# EAGLE library part XC6SLX9-3TQG144C (library Schuyler)
Xilinx Spartan 6 LX9 FPGA in the TQG144 package.
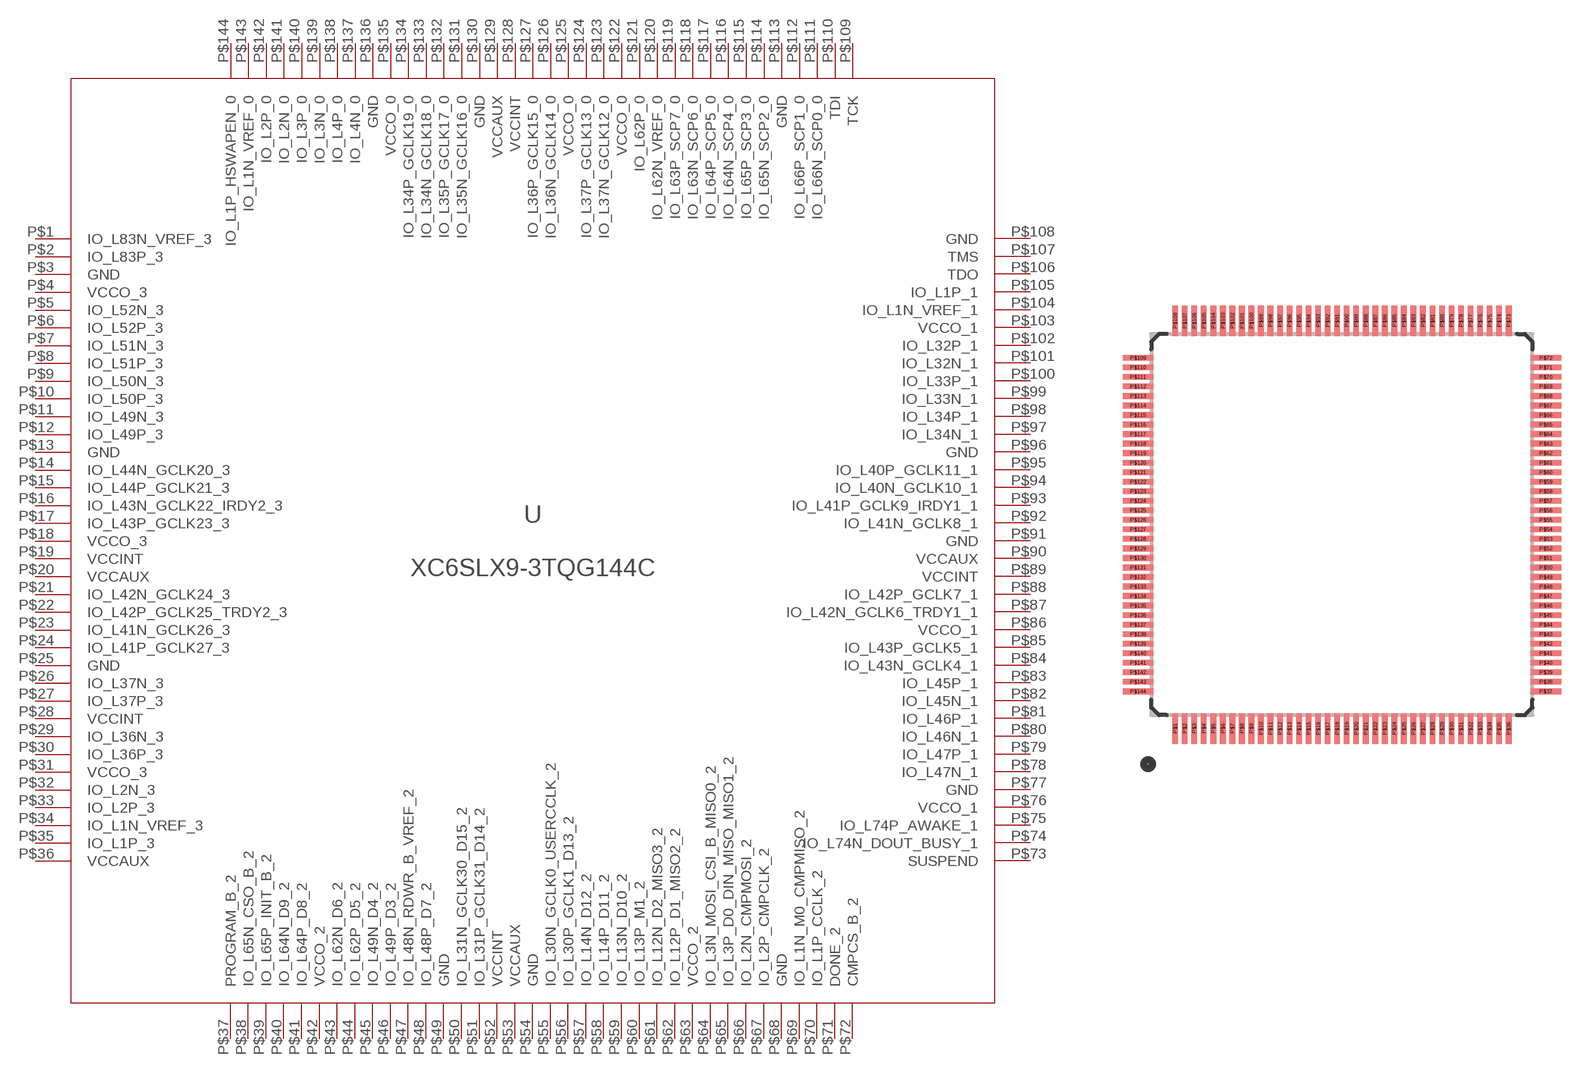
[diagram p13: symbol with the pads of TQG144; footprint TQG144]

Designator prefix -

## XC6SLX9-3TQG144C (MANPARTNUMBER: XC6SLX9-3TQG144C; MANUFACTURER: Xilinx Inc; PARTNUMBER: 122-1747-ND; SUPPLIER: DIGIKEY; VERIFIED: FALSE)  [TQG144]
P$1  IO_L83N_VREF_3
P$2  IO_L83P_3
P$3  GND  pwr
P$4  VCCO_3  pwr
P$5  IO_L52N_3
P$6  IO_L52P_3
P$7  IO_L51N_3
P$8  IO_L51P_3
P$9  IO_L50N_3
P$10  IO_L50P_3
P$11  IO_L49N_3
P$12  IO_L49P_3
P$13  GND  pwr
P$14  IO_L44N_GCLK20_3
P$15  IO_L44P_GCLK21_3
P$16  IO_L43N_GCLK22_IRDY2_3
P$17  IO_L43P_GCLK23_3
P$18  VCCO_3  pwr
P$19  VCCINT  pwr
P$20  VCCAUX  pwr
P$21  IO_L42N_GCLK24_3
P$22  IO_L42P_GCLK25_TRDY2_3
P$23  IO_L41N_GCLK26_3
P$24  IO_L41P_GCLK27_3
P$25  GND  pwr
P$26  IO_L37N_3
P$27  IO_L37P_3
P$28  VCCINT  pwr
P$29  IO_L36N_3
P$30  IO_L36P_3
P$31  VCCO_3  pwr
P$32  IO_L2N_3
P$33  IO_L2P_3
P$34  IO_L1N_VREF_3
P$35  IO_L1P_3
P$36  VCCAUX  pwr
P$37  PROGRAM_B_2
P$38  IO_L65N_CSO_B_2
P$39  IO_L65P_INIT_B_2
P$40  IO_L64N_D9_2
P$41  IO_L64P_D8_2
P$42  VCCO_2  pwr
P$43  IO_L62N_D6_2
P$44  IO_L62P_D5_2
P$45  IO_L49N_D4_2
P$46  IO_L49P_D3_2
P$47  IO_L48N_RDWR_B_VREF_2
P$48  IO_L48P_D7_2
P$49  GND  pwr
P$50  IO_L31N_GCLK30_D15_2
P$51  IO_L31P_GCLK31_D14_2
P$52  VCCINT  pwr
P$53  VCCAUX  pwr
P$54  GND  pwr
P$55  IO_L30N_GCLK0_USERCCLK_2
P$56  IO_L30P_GCLK1_D13_2
P$57  IO_L14N_D12_2
P$58  IO_L14P_D11_2
P$59  IO_L13N_D10_2
P$60  IO_L13P_M1_2
P$61  IO_L12N_D2_MISO3_2
P$62  IO_L12P_D1_MISO2_2
P$63  VCCO_2  pwr
P$64  IO_L3N_MOSI_CSI_B_MISO0_2
P$65  IO_L3P_D0_DIN_MISO_MISO1_2
P$66  IO_L2N_CMPMOSI_2
P$67  IO_L2P_CMPCLK_2
P$68  GND  pwr
P$69  IO_L1N_M0_CMPMISO_2
P$70  IO_L1P_CCLK_2
P$71  DONE_2
P$72  CMPCS_B_2
P$73  SUSPEND
P$74  IO_L74N_DOUT_BUSY_1
P$75  IO_L74P_AWAKE_1
P$76  VCCO_1  pwr
P$77  GND  pwr
P$78  IO_L47N_1
P$79  IO_L47P_1
P$80  IO_L46N_1
P$81  IO_L46P_1
P$82  IO_L45N_1
P$83  IO_L45P_1
P$84  IO_L43N_GCLK4_1
P$85  IO_L43P_GCLK5_1
P$86  VCCO_1  pwr
P$87  IO_L42N_GCLK6_TRDY1_1
P$88  IO_L42P_GCLK7_1
P$89  VCCINT  pwr
P$90  VCCAUX  pwr
P$91  GND  pwr
P$92  IO_L41N_GCLK8_1
P$93  IO_L41P_GCLK9_IRDY1_1
P$94  IO_L40N_GCLK10_1
P$95  IO_L40P_GCLK11_1
P$96  GND  pwr
P$97  IO_L34N_1
P$98  IO_L34P_1
P$99  IO_L33N_1
P$100  IO_L33P_1
P$101  IO_L32N_1
P$102  IO_L32P_1
P$103  VCCO_1  pwr
P$104  IO_L1N_VREF_1
P$105  IO_L1P_1
P$106  TDO
P$107  TMS
P$108  GND  pwr
P$109  TCK
P$110  TDI
P$111  IO_L66N_SCP0_0
P$112  IO_L66P_SCP1_0
P$113  GND  pwr
P$114  IO_L65N_SCP2_0
P$115  IO_L65P_SCP3_0
P$116  IO_L64N_SCP4_0
P$117  IO_L64P_SCP5_0
P$118  IO_L63N_SCP6_0
P$119  IO_L63P_SCP7_0
P$120  IO_L62N_VREF_0
P$121  IO_L62P_0
P$122  VCCO_0  pwr
P$123  IO_L37N_GCLK12_0
P$124  IO_L37P_GCLK13_0
P$125  VCCO_0  pwr
P$126  IO_L36N_GCLK14_0
P$127  IO_L36P_GCLK15_0
P$128  VCCINT  pwr
P$129  VCCAUX  pwr
P$130  GND  pwr
P$131  IO_L35N_GCLK16_0
P$132  IO_L35P_GCLK17_0
P$133  IO_L34N_GCLK18_0
P$134  IO_L34P_GCLK19_0
P$135  VCCO_0  pwr
P$136  GND  pwr
P$137  IO_L4N_0
P$138  IO_L4P_0
P$139  IO_L3N_0
P$140  IO_L3P_0
P$141  IO_L2N_0
P$142  IO_L2P_0
P$143  IO_L1N_VREF_0
P$144  IO_L1P_HSWAPEN_0

## Footprint TQG144 (pad centres in mm)
TQG144 package as specified in the Xilinx Spartan 6 datasheet/user guide. Verified=false.
smd 0.3 x 1.6: P$1 -8.75,-10.7; P$2 -8.25,-10.7; P$3 -7.75,-10.7; P$4 -7.25,-10.7; P$5 -6.75,-10.7; P$6 -6.25,-10.7; P$7 -5.75,-10.7; P$8 -5.25,-10.7; P$9 -4.75,-10.7; P$10 -4.25,-10.7; P$11 -3.75,-10.7; P$12 -3.25,-10.7; P$13 -2.75,-10.7; P$14 -2.25,-10.7; P$15 -1.75,-10.7; P$16 -1.25,-10.7; P$17 -0.75,-10.7; P$18 -0.25,-10.7; P$19 0.25,-10.7; P$20 0.75,-10.7; P$21 1.25,-10.7; P$22 1.75,-10.7; P$23 2.25,-10.7; P$24 2.75,-10.7; P$25 3.25,-10.7; P$26 3.75,-10.7; P$27 4.25,-10.7; P$28 4.75,-10.7; P$29 5.25,-10.7; P$30 5.75,-10.7; P$31 6.25,-10.7; P$32 6.75,-10.7; P$33 7.25,-10.7; P$34 7.75,-10.7; P$35 8.25,-10.7; P$36 8.75,-10.7; P$73 8.75,10.7; P$74 8.25,10.7; P$75 7.75,10.7; P$76 7.25,10.7; P$77 6.75,10.7; P$78 6.25,10.7; P$79 5.75,10.7; P$80 5.25,10.7; P$81 4.75,10.7; P$82 4.25,10.7; P$83 3.75,10.7; P$84 3.25,10.7; P$85 2.75,10.7; P$86 2.25,10.7; P$87 1.75,10.7; P$88 1.25,10.7; P$89 0.75,10.7; P$90 0.25,10.7; P$91 -0.25,10.7; P$92 -0.75,10.7; P$93 -1.25,10.7; P$94 -1.75,10.7; P$95 -2.25,10.7; P$96 -2.75,10.7; P$97 -3.25,10.7; P$98 -3.75,10.7; P$99 -4.25,10.7; P$100 -4.75,10.7; P$101 -5.25,10.7; P$102 -5.75,10.7; P$103 -6.25,10.7; P$104 -6.75,10.7; P$105 -7.25,10.7; P$106 -7.75,10.7; P$107 -8.25,10.7; P$108 -8.75,10.7
smd 1.6 x 0.3: P$37 10.7,-8.75; P$38 10.7,-8.25; P$39 10.7,-7.75; P$40 10.7,-7.25; P$41 10.7,-6.75; P$42 10.7,-6.25; P$43 10.7,-5.75; P$44 10.7,-5.25; P$45 10.7,-4.75; P$46 10.7,-4.25; P$47 10.7,-3.75; P$48 10.7,-3.25; P$49 10.7,-2.75; P$50 10.7,-2.25; P$51 10.7,-1.75; P$52 10.7,-1.25; P$53 10.7,-0.75; P$54 10.7,-0.25; P$55 10.7,0.25; P$56 10.7,0.75; P$57 10.7,1.25; P$58 10.7,1.75; P$59 10.7,2.25; P$60 10.7,2.75; P$61 10.7,3.25; P$62 10.7,3.75; P$63 10.7,4.25; P$64 10.7,4.75; P$65 10.7,5.25; P$66 10.7,5.75; P$67 10.7,6.25; P$68 10.7,6.75; P$69 10.7,7.25; P$70 10.7,7.75; P$71 10.7,8.25; P$72 10.7,8.75; P$109 -10.7,8.75; P$110 -10.7,8.25; P$111 -10.7,7.75; P$112 -10.7,7.25; P$113 -10.7,6.75; P$114 -10.7,6.25; P$115 -10.7,5.75; P$116 -10.7,5.25; P$117 -10.7,4.75; P$118 -10.7,4.25; P$119 -10.7,3.75; P$120 -10.7,3.25; P$121 -10.7,2.75; P$122 -10.7,2.25; P$123 -10.7,1.75; P$124 -10.7,1.25; P$125 -10.7,0.75; P$126 -10.7,0.25; P$127 -10.7,-0.25; P$128 -10.7,-0.75; P$129 -10.7,-1.25; P$130 -10.7,-1.75; P$131 -10.7,-2.25; P$132 -10.7,-2.75; P$133 -10.7,-3.25; P$134 -10.7,-3.75; P$135 -10.7,-4.25; P$136 -10.7,-4.75; P$137 -10.7,-5.25; P$138 -10.7,-5.75; P$139 -10.7,-6.25; P$140 -10.7,-6.75; P$141 -10.7,-7.25; P$142 -10.7,-7.75; P$143 -10.7,-8.25; P$144 -10.7,-8.75